# EAGLE library part DIP-SWITCH-3P3T (library pimoroni-mechanical)
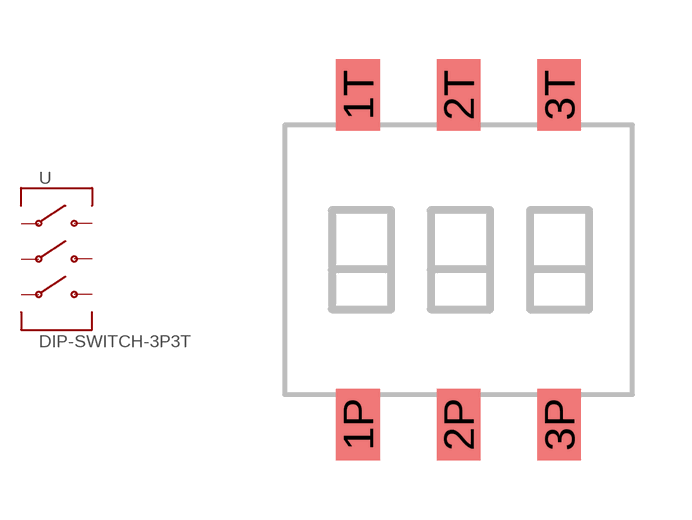
[diagram p2: symbol with the pads of DIP-SWITCH-3P3T; footprint DIP-SWITCH-3P3T]

Designator prefix -

## DIP-SWITCH-3P3T  [DIP-SWITCH-3P3T]
1P  A_P
1T  A_T
2P  B_P
2T  B_T
3P  C_P
3T  C_T

## Footprint DIP-SWITCH-3P3T (pad centres in mm)
smd 1.1 x 1.8: 1P -2.54,-4.16; 1T -2.54,4.16; 2P 0,-4.16; 2T 0,4.16; 3P 2.54,-4.16; 3T 2.54,4.16